# EAGLE library part TXB0108PWR (library MSA_lib)
8-Bit Bi-Directional Level Shifter 1.2V-3.6V (VCCA) to 1.65V-5.5V (VCCB) bi-directional level shifter with auto direction sensing. Max data rate - VCCA 1.8V: 20Mbps (50ns), VCCA 3.3V: 100Mbps (10ns) Digikey: 296-21527-1-ND
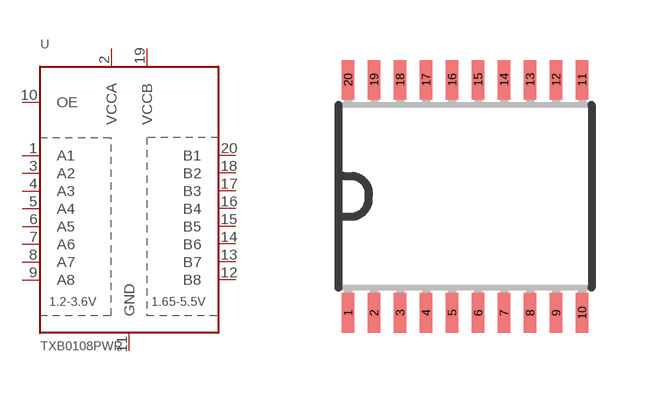
[diagram p36: symbol with the pads of TSSOP20; footprint TSSOP20]

Designator prefix U

## TXB0108PWR (OC_FARNELL: 1494945)  [TSSOP20]
1  A1
2  VCCA
3  A2
4  A3
5  A4
6  A5
7  A6
8  A7
9  A8
10  OE
11  GND
12  B8
13  B7
14  B6
15  B5
16  B4
17  B3
18  B2
19  VCCB
20  B1

## Footprint TSSOP20 (pad centres in mm)
smd 0.305 x 0.991: 1 -2.925,-2.918; 2 -2.275,-2.918; 3 -1.625,-2.918; 4 -0.975,-2.918; 5 -0.325,-2.918; 6 0.325,-2.918; 7 0.975,-2.918; 8 1.625,-2.918; 9 2.275,-2.918; 10 2.925,-2.918; 11 2.925,2.918; 12 2.275,2.918; 13 1.625,2.918; 14 0.975,2.918; 15 0.325,2.918; 16 -0.325,2.918; 17 -0.975,2.918; 18 -1.625,2.918; 19 -2.275,2.918; 20 -2.925,2.918